# Altium schematic symbol library Devices_SMD_plus_DIP.SchLib: 29 symbols
Pins are listed as number, name and electrical type; pins without a type are passive.

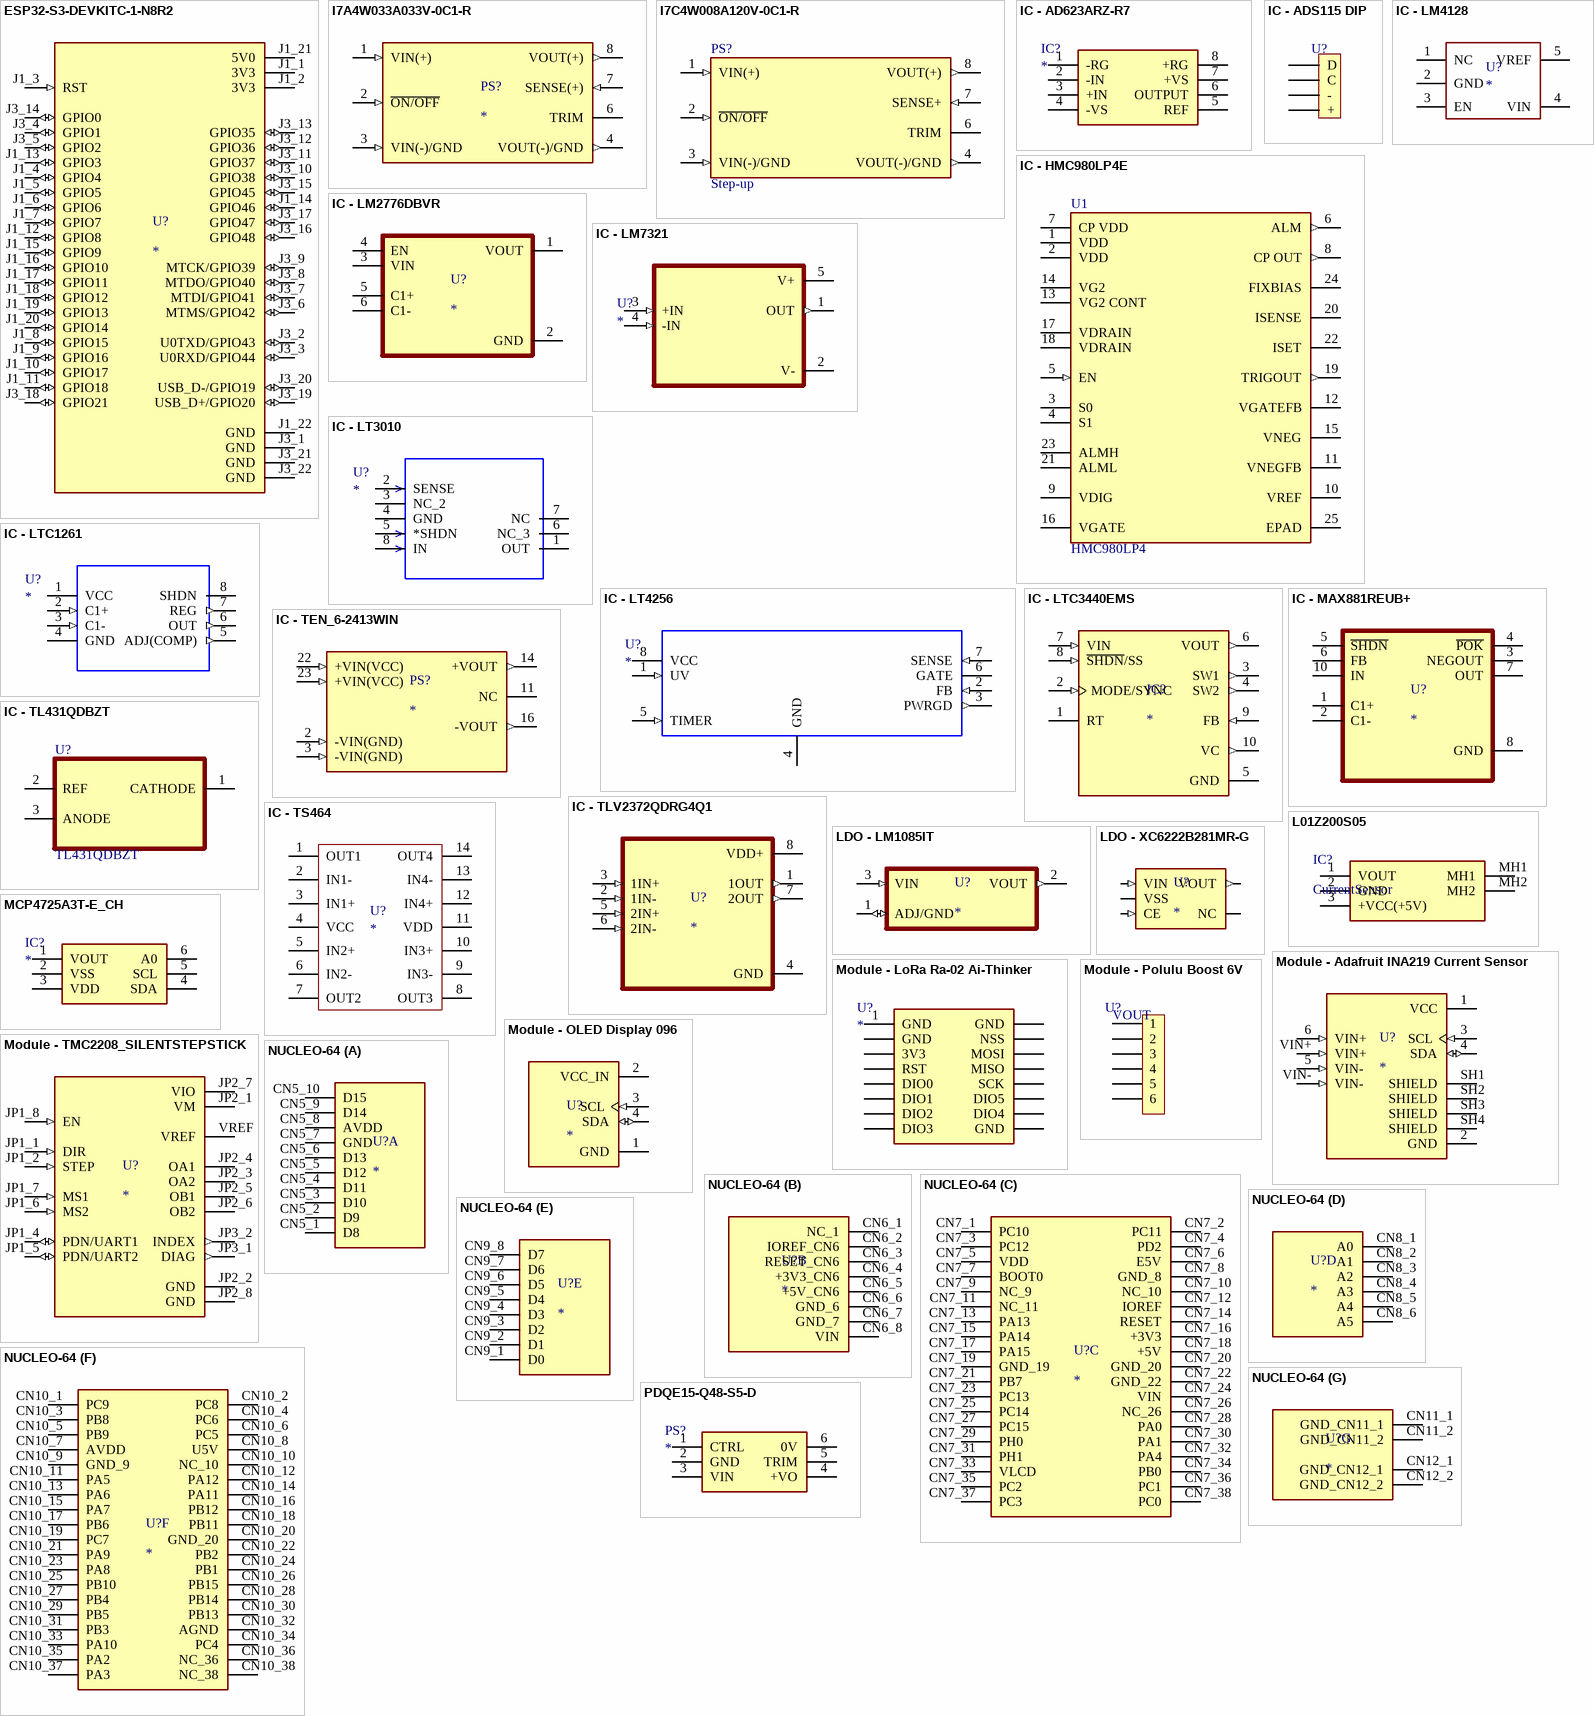
[diagram p0: symbols ESP32-S3-DEVKITC-1-N8R2 to PDQE15-Q48-S5-D]

## ESP32-S3-DEVKITC-1-N8R2
designator U?
WiFi Development Tools - 802.11 (Engineering Samples Only) ESP32-S3 General-Purpose Development Board, ESP32-S3-WROOM-1-N8R2, with Pin Header; MP: ESP32-S3-DEVKITC-1-N8R2; MF: Espressif Systems; SnapEDA_Link: https://www.snapeda.com/parts/ESP32-S3-DEVKITC-1-N8R2/Espressif+Systems/view-part/?ref=snap; Value: *; Purchase-URL: https://pricing.snapeda.com/search/part/ESP32-S3-DEVKITC-1-N8R2/?ref=eda; Availability: In Stock; Check_prices: https://www.snapeda.com/parts/ESP32-S3-DEVKITC-1-N8R2/Espressif+Systems/view-part/?ref=eda; Package: None; Price: None
footprint ESP32-S3-DEVKITC-1-N8R2_Total_outline
footprint ESP32-S3-DEVKITC_double_row
footprint ORIGINAL_ESP32-S3-DEVKITC_1
pins: J1_1 3V3 (power), J1_2 3V3 (power), J1_3 RST (in), J1_4 GPIO4 (io), J1_5 GPIO5 (io), J1_6 GPIO6 (io), J1_7 GPIO7 (io), J1_8 GPIO15 (io), J1_9 GPIO16 (io), J1_10 GPIO17 (io), J1_11 GPIO18 (io), J1_12 GPIO8 (io), J1_13 GPIO3 (io), J1_14 GPIO46 (io), J1_15 GPIO9 (io), J1_16 GPIO10 (io), J1_17 GPIO11 (io), J1_18 GPIO12 (io), J1_19 GPIO13 (io), J1_20 GPIO14 (io), J1_21 5V0 (power), J1_22 GND (power), J3_1 GND (power), J3_2 U0TXD/GPIO43 (io), J3_3 U0RXD/GPIO44 (io), J3_4 GPIO1 (io), J3_5 GPIO2 (io), J3_6 MTMS/GPIO42 (io), J3_7 MTDI/GPIO41 (io), J3_8 MTDO/GPIO40 (io), J3_9 MTCK/GPIO39 (io), J3_10 GPIO38 (io), J3_11 GPIO37 (io), J3_12 GPIO36 (io), J3_13 GPIO35 (io), J3_14 GPIO0 (io), J3_15 GPIO45 (io), J3_16 GPIO48 (io), J3_17 GPIO47 (io), J3_18 GPIO21 (io), J3_19 USB_D+/GPIO20 (io), J3_20 USB_D-/GPIO19 (io), J3_21 GND (power), J3_22 GND (power)

## I7A4W033A033V-0C1-R
designator PS?
Non-Isolated PoL Module DC DC Converter 1 Output 3.3V ~ 24V - - - 33A 18V - 60V Input; MP: I7A4W033A033V-0C1-R; MF: TDK-Lambda Americas Inc; Value: *; SnapEDA_Link: https://www.snapeda.com/parts/I7A4W033A033V-0C1-R/TDK-Lambda+Americas+Inc/view-part/?ref=snap; Purchase-URL: https://pricing.snapeda.com/search/part/I7A4W033A033V-0C1-R/?ref=eda; Check_prices: https://www.snapeda.com/parts/I7A4W033A033V-0C1-R/TDK-Lambda+Americas+Inc/view-part/?ref=eda; Availability: In Stock; Price: None; Package: None
footprint CONV_I7A4W033A033V-0C1-R
pins: 1 VIN(+) (in), 2 ~{ON/OFF} (in), 3 VIN(-)/GND (in), 4 VOUT(-)/GND (out), 6 TRIM, 7 SENSE(+) (in), 8 VOUT(+) (out)

## I7C4W008A120V-0C1-R
designator PS?, comment Step-up
Non-Isolated PoL Module DC DC Converter 1 Output 9.6 ~ 48V - - - 8A 9V - 53V Input; MP: I7C4W008A120V-0C1-R; MF: TDK-Lambda Americas Inc; Purchase-URL: https://pricing.snapeda.com/search/part/I7C4W008A120V-0C1-R/?ref=eda; Package: Sixteenth Brick TDK-Lambda Americas Inc.; SnapEDA_Link: https://www.snapeda.com/parts/I7C4W008A120V-0C1-R/TDK-Lambda+Americas+Inc/view-part/?ref=snap; Value: *; Check_prices: https://www.snapeda.com/parts/I7C4W008A120V-0C1-R/TDK-Lambda+Americas+Inc/view-part/?ref=eda; Availability: In Stock; Price: None
footprint CONV_I7C4W008A120V-0C1-R (Footprint not found)
pins: 1 VIN(+) (in), 2 ~{ON/OFF} (in), 3 VIN(-)/GND (in), 4 VOUT(-)/GND (out), 6 TRIM, 7 SENSE+ (in), 8 VOUT(+) (out)

## IC - AD623ARZ-R7
designator IC?
Instrumentation Amplifier; Manufacturer_Name: Analog Devices; Manufacturer_Part_Number: AD623ARZ-R7; Datasheet Link: https://datasheet.lcsc.com/szlcsc/Analog-Devices-ADI-AD623ARZ-R7_C9676.pdf; Height: 1.75mm; Mouser Part Number: 584-AD623ARZ-R7; Mouser Price/Stock: https://www.mouser.co.uk/ProductDetail/Analog-Devices/AD623ARZ-R7?qs=NmRFExCfTkGRgPXHrKbkXA%3D%3D; Arrow Part Number: AD623ARZ-R7; Arrow Price/Stock: https://www.arrow.com/en/products/ad623arz-r7/analog-devices?region=europe
footprint SOIC-8
pins: 1 -RG, 2 -IN, 3 +IN, 4 -VS, 5 REF, 6 OUTPUT, 7 +VS, 8 +RG

## IC - ADS115 DIP
designator U?
I2C external ADC 16 bit DIP package - DFROBOTIC
footprint ADS1115_DIP (DIP package - DFROBOTIC (Henrique-2023-7-27))
pins: 1 D, 2 C, 3 -, 4 +

## IC - HMC980LP4E
designator U1, comment HMC980LP4
IC ACTIVE BIAS CONTROLLER 24QFN
footprint QFN50P400X400X100-25N (HMC980LP4E - QFN-24)
pins: 1 VDD (power), 2 VDD (power), 3 S0, 4 S1, 5 EN (in), 6 ALM (out), 7 CP VDD (power), 8 CP OUT (out), 9 VDIG, 10 VREF, 11 VNEGFB, 12 VGATEFB, 13 VG2 CONT, 14 VG2, 15 VNEG, 16 VGATE, 17 VDRAIN, 18 VDRAIN, 19 TRIGOUT (out), 20 ISENSE, 21 ALML, 22 ISET, 23 ALMH, 24 FIXBIAS, 25 EPAD (power)

## IC - LM2776DBVR
designator U?
MF: Texas Instruments; MP: LM2776DBVR; Package: SOT-23-6 Texas Instruments; Value: *; Texas_Instruments-Purchase-URL: https://snapeda.com/shop?store=Texas+Instruments&id=567631; Availability: Good; Mouser-Purchase-URL: https://snapeda.com/shop?store=Mouser&id=567631; SnapEDA_Link: https://www.snapeda.com/parts/LM2776DBVR/Texas%20Instruments/view-part/567631/?ref=snap; Price: None; DigiKey-Purchase-URL: https://snapeda.com/shop?store=DigiKey&id=567631
footprint SOT23-6
pins: 1 VOUT, 2 GND (power), 3 VIN, 4 EN, 5 C1+, 6 C1-

## IC - LM4128
designator U?
Voltage Reference 5Vin 3.3Vout
footprint SOT23-5
pins: 1 NC, 2 GND, 3 EN, 4 VIN, 5 VREF

## IC - LM7321
designator U?
footprint SOT23-5
pins: 1 OUT (out), 2 V- (power), 3 +IN (in), 4 -IN (in), 5 V+ (power)

## IC - LT3010
designator U?
footprint MSOP-8 - EPAD
pins: 1 OUT, 2 SENSE, 3 NC_2, 4 GND (power), 5 *SHDN, 6 NC_3, 7 NC, 8 IN

## IC - LT4256
designator U?
footprint SO-8
pins: 1 UV (in), 2 FB (in), 3 PWRGD (out), 4 GND (power), 5 TIMER (in), 6 GATE, 7 SENSE (in), 8 VCC (power)

## IC - LTC1261
designator U?
footprint MSOP-8
pins: 1 VCC (power), 2 C1+ (in), 3 C1- (in), 4 GND (power), 5 ADJ(COMP) (out), 6 OUT (out), 7 REG (out), 8 SHDN

## IC - LTC3440EMS
designator IC?
Micropower Synchronous Buck-Boost DC/DC Converter / 3V3 regulator to Li-ion Battery; MF: Analog Devices; MP: LTC3440EMS#TRPBF; Package: MSOP-10 Analog Devices; Price: None; Check_prices: https://www.snapeda.com/parts/LTC3440EMS%23TRPBF/Analog+Devices/view-part/?ref=eda; Value: *; SnapEDA_Link: https://www.snapeda.com/parts/LTC3440EMS%23TRPBF/Analog+Devices/view-part/?ref=snap; Availability: In Stock; Purchase-URL: https://pricing.snapeda.com/search/part/LTC3440EMS#TRPBF/?ref=eda
footprint MSOP-10
pins: 1 RT, 2 MODE/SYNC (in), 3 SW1 (out), 4 SW2 (out), 5 GND (power), 6 VOUT (out), 7 VIN (in), 8 ~{SHDN}/SS (in), 9 FB (in), 10 VC (out)

## IC - MAX881REUB+
designator U?
MP: MAX881REUB+; MF: Maxim Integrated; SnapEDA_Link: https://www.snapeda.com/parts/MAX881REUB+/Maxim%20Integrated/view-part/524224/?ref=snap; Price: None; Purchase-URL: https://pricing.snapeda.com/search/part/MAX881REUB+/?ref=eda; Value: *; Availability: Warning; Check_prices: https://www.snapeda.com/parts/MAX881REUB+/Maxim%20Integrated/view-part/524224/?ref=eda; Package: uMAX-10 Maxim
footprint uMAX-10
pins: 1 C1+, 2 C1-, 3 NEGOUT, 4 ~{POK}, 5 ~{SHDN}, 6 FB, 7 OUT, 8 GND (power), 10 IN

## IC - TEN_6-2413WIN
designator PS?
5 Watt DC/DC converter, industrial, 2:1 input, regulated, encapsulated, DIP-24
footprint DIP_24_plastic
pins: 2 -VIN(GND) (in), 3 -VIN(GND) (in), 11 NC, 14 +VOUT (out), 16 -VOUT (out), 22 +VIN(VCC) (in), 23 +VIN(VCC) (in)

## IC - TL431QDBZT
designator U?, comment TL431QDBZT
Adjustable precision shunt regulator; MF: Texas Instruments; SnapEDA_Link: https://www.snapeda.com/parts/TL431QDBZT/Texas+Instruments/view-part/?ref=snap; Value: *; Purchase-URL: https://pricing.snapeda.com/search/part/TL431QDBZT/?ref=eda; Check_prices: https://www.snapeda.com/parts/TL431QDBZT/Texas+Instruments/view-part/?ref=eda; Availability: In Stock; Price: None; MP: TL431QDBZT; Package: SOT-23-3 Texas Instruments
footprint SOT-23-3
pins: 1 CATHODE, 2 REF (power), 3 ANODE

## IC - TLV2372QDRG4Q1
designator U?
2-channel Rail-to-rail opamp; MP: TLV2372ID; Package: None; Price: None; Value: *; Availability: Unavailable
footprint SOIC-8
pins: 1 1OUT (out), 2 1IN- (in), 3 1IN+ (in), 4 GND (power), 5 2IN+ (in), 6 2IN- (in), 7 2OUT (out), 8 VDD+ (power)

## IC - TS464
designator U?
OPAMP 4 Channels
footprint TSSOP-14
pins: 1 OUT1, 2 IN1-, 3 IN1+, 4 VCC, 5 IN2+, 6 IN2-, 7 OUT2, 8 OUT3, 9 IN3-, 10 IN3+, 11 VDD, 12 IN4+, 13 IN4-, 14 OUT4

## L01Z200S05
designator IC?, comment CurrentSensor
Current Sensor; Manufacturer_Name: Tamura; Manufacturer_Part_Number: L01Z200S05; Datasheet Link: https://componentsearchengine.com/Datasheets/1/L01Z200S05.pdf; Height: 27mm; Mouser Part Number: 838-L01Z200S05; Mouser Price/Stock: https://www.mouser.co.uk/ProductDetail/Tamura/L01Z200S05?qs=UO2oIyMggj%2Fd0OMBm5djtA%3D%3D
footprint L01Z200S05
pins: 1 VOUT, 2 GND, 3 +VCC(+5V), MH1, MH2

## LDO - LM1085IT
designator U?
LDO Voltage Regulators 3A LDO Pos Regs
footprint TO-220-3 (DIP 3 pin LDO)
pins: 1 ADJ/GND (io), 2 VOUT (out), 3 VIN (in)

## LDO - XC6222B281MR-G
designator U?
Linear Voltage Regulator IC 1 Output 700mA SOT-25; MF: Torex; MP: XC6222B281MR-G; SnapEDA_Link: https://www.snapeda.com/parts/XC6222B281MR-G/Torex/view-part/1149890/?ref=snap; Value: *; Purchase-URL: https://pricing.snapeda.com/search/part/XC6222B281MR-G/?ref=eda; Price: None; Availability: Warning; Package: SOT-753 Torex; Check_prices: https://www.snapeda.com/parts/XC6222B281MR-G/Torex/view-part/1149890/?ref=eda
footprint SOT25
pins: P$1 VIN (in), P$2 VSS (power), P$3 CE (in), P$4 VOUT (out), P$5 NC (io)

## MCP4725A3T-E_CH
designator IC?
Integrated Circuit; Manufacturer_Name: Microchip; Manufacturer_Part_Number: MCP4725A3T-E/CH; Datasheet Link: http://www.microchip.com/mymicrochip/filehandler.aspx?ddocname=en532676; Height: 1.45mm; Mouser Part Number: 579-MCP4725A3T-E/CH; Mouser Price/Stock: https://www.mouser.co.uk/ProductDetail/Microchip-Technology/MCP4725A3T-E-CH?qs=hH%252BOa0VZEiBSYoLvaYdGYg%3D%3D; Arrow Part Number: MCP4725A3T-E/CH; Arrow Price/Stock: https://www.arrow.com/en/products/mcp4725a3t-ech/microchip-technology?region=nac
footprint SOT23-6
pins: 1 VOUT, 2 VSS, 3 VDD, 4 SDA, 5 SCL, 6 A0

## Module - Adafruit INA219 Current Sensor
designator U?
INA219 High Side DC Current Sensor Breakout - 26V Â±3.2A Max - STEMMA QT; MF: Adafruit Industries; MP: 904; SnapEDA_Link: https://www.snapeda.com/parts/904/Adafruit+Industries+LLC/view-part/?ref=snap; Package: NON-STANDARD-8 ADAFRUIT; Value: *; Check_prices: https://www.snapeda.com/parts/904/Adafruit+Industries+LLC/view-part/?ref=eda
footprint Module_Adafruit_INA219 (MODULE_904 current sensor Adafruit)
pins: 1 VCC (power), 2 GND (power), 3 SCL (in), 4 SDA (io), 5 VIN- (in), 6 VIN+ (in), SH1 SHIELD, SH2 SHIELD, SH3 SHIELD, SH4 SHIELD, VIN+ (in), VIN- (in)

## Module - LoRa Ra-02 Ai-Thinker
designator U?
LoRa 433 MHz Module
footprint MODULE LoRa Ra-02 Ai Thinker_separate rows
pins: 1 GND, 2 GND, 3 3V3, 4 RST, 5 DIO0, 6 DIO1, 7 DIO2, 8 DIO3, 9 GND, 10 NSS, 11 MOSI, 12 MISO, 13 SCK, 14 DIO5, 15 DIO4, 16 GND

## Module - OLED Display 096
designator U?
0.96â€ 128 X 64 MONOCHROME GRAPHIC OLED DISPLAY MODULE - I2C
footprint MODULE_DM-OLED096-636
pins: 1 GND (power), 2 VCC_IN (power), 3 SCL (in), 4 SDA (io)

## Module - Polulu Boost 6V
designator U?  (value not drawn)
footprint Header 2.54mm 6Pos 1Row
pins: 1, 2, 3, 4, 5, 6
text: VOUT

## Module - TMC2208_SILENTSTEPSTICK
designator U?
TMC2208 Motor Controller/Driver, Stepper Power Management Evaluation Board; MP: TMC2208_SILENTSTEPSTICK; Value: *; Availability: Unavailable; Package: None; Price: None
footprint MODULE_TMC2208_SILENTSTEPSTICK
pins: JP1_1 DIR (in), JP1_2 STEP (in), JP1_4 PDN/UART1 (io), JP1_5 PDN/UART2 (io), JP1_6 MS2 (in), JP1_7 MS1 (in), JP1_8 EN (in), JP2_1 VM (power), JP2_2 GND (power), JP2_3 OA2, JP2_4 OA1, JP2_5 OB1, JP2_6 OB2, JP2_7 VIO (power), JP2_8 GND (power), JP3_1 DIAG (out), JP3_2 INDEX (out), VREF

## NUCLEO-64
designator U?
Embedded Evaluation Board - Nucleo-64
footprint NUCLEO-L053R8_Board_edited (Nucleo-64 Board L series)
footprint NUCLEO-L053R8_board_vias (NUCLEO-64 for Socket and Bolt)
part A pins: CN5_1 D8, CN5_2 D9, CN5_3 D10, CN5_4 D11, CN5_5 D12, CN5_6 D13, CN5_7 GND (power), CN5_8 AVDD (power), CN5_9 D14, CN5_10 D15
part B pins: CN6_1 NC_1, CN6_2 IOREF_CN6, CN6_3 RESET_CN6, CN6_4 +3V3_CN6 (power), CN6_5 +5V_CN6 (power), CN6_6 GND_6 (power), CN6_7 GND_7 (power), CN6_8 VIN (power)
part C pins: CN7_1 PC10, CN7_2 PC11, CN7_3 PC12, CN7_4 PD2, CN7_5 VDD (power), CN7_6 E5V, CN7_7 BOOT0, CN7_8 GND_8 (power), CN7_9 NC_9, CN7_10 NC_10, CN7_11 NC_11, CN7_12 IOREF, CN7_13 PA13, CN7_14 RESET, CN7_15 PA14, CN7_16 +3V3, CN7_17 PA15, CN7_18 +5V, CN7_19 GND_19 (power), CN7_20 GND_20 (power), CN7_21 PB7, CN7_22 GND_22 (power), CN7_23 PC13, CN7_24 VIN (power), CN7_25 PC14, CN7_26 NC_26, CN7_27 PC15, CN7_28 PA0, CN7_29 PH0, CN7_30 PA1, CN7_31 PH1, CN7_32 PA4, CN7_33 VLCD, CN7_34 PB0, CN7_35 PC2, CN7_36 PC1, CN7_37 PC3, CN7_38 PC0
part D pins: CN8_1 A0, CN8_2 A1, CN8_3 A2, CN8_4 A3, CN8_5 A4, CN8_6 A5
part E pins: CN9_1 D0, CN9_2 D1, CN9_3 D2, CN9_4 D3, CN9_5 D4, CN9_6 D5, CN9_7 D6, CN9_8 D7
part F pins: CN10_1 PC9, CN10_2 PC8, CN10_3 PB8, CN10_4 PC6, CN10_5 PB9, CN10_6 PC5, CN10_7 AVDD (power), CN10_8 U5V, CN10_9 GND_9 (power), CN10_10 NC_10, CN10_11 PA5, CN10_12 PA12, CN10_13 PA6, CN10_14 PA11, CN10_15 PA7, CN10_16 PB12, CN10_17 PB6, CN10_18 PB11, CN10_19 PC7, CN10_20 GND_20 (power), CN10_21 PA9, CN10_22 PB2, CN10_23 PA8, CN10_24 PB1, CN10_25 PB10, CN10_26 PB15, CN10_27 PB4, CN10_28 PB14, CN10_29 PB5, CN10_30 PB13, CN10_31 PB3, CN10_32 AGND (power), CN10_33 PA10, CN10_34 PC4, CN10_35 PA2, CN10_36 NC_36, CN10_37 PA3, CN10_38 NC_38
part G pins: CN11_1 GND_CN11_1 (power), CN11_2 GND_CN11_2 (power), CN12_1 GND_CN12_1 (power), CN12_2 GND_CN12_2 (power)

## PDQE15-Q48-S5-D
designator PS?
5V Power Supply; Manufacturer_Name: CUI Inc.; Manufacturer_Part_Number: PDQE15-Q48-S5-D; Datasheet Link: https://componentsearchengine.com/Datasheets/1/PDQE15-Q48-S5-D.pdf; Height: 11.7mm; Mouser Part Number: 490-PDQE15-Q48-S5-D; Mouser Price/Stock: https://www.mouser.co.uk/ProductDetail/CUI-Inc/PDQE15-Q48-S5-D?qs=T3oQrply3y9FUAAhwUwkRg%3D%3D; Arrow Part Number: PDQE15-Q48-S5-D; Arrow Price/Stock: https://www.arrow.com/en/products/pdqe15-q48-s5-d/cui-inc
footprint PDQE15Q48S5D
pins: 1 CTRL, 2 GND, 3 VIN, 4 +VO, 5 TRIM, 6 0V